# Altium footprint library CAP_SMD.PcbLib: 70 footprints (part 3 of 5)
Each footprint in its own frame and in the unit in brackets; x right, y up, seen from the top. Pads: shape width x height; smd on the part's side, far side on the other; paste and mask are expansions set on the pad; w line width, h text height; cw(c..) or ccw(c..) is an arc to the next point about the centre after c.
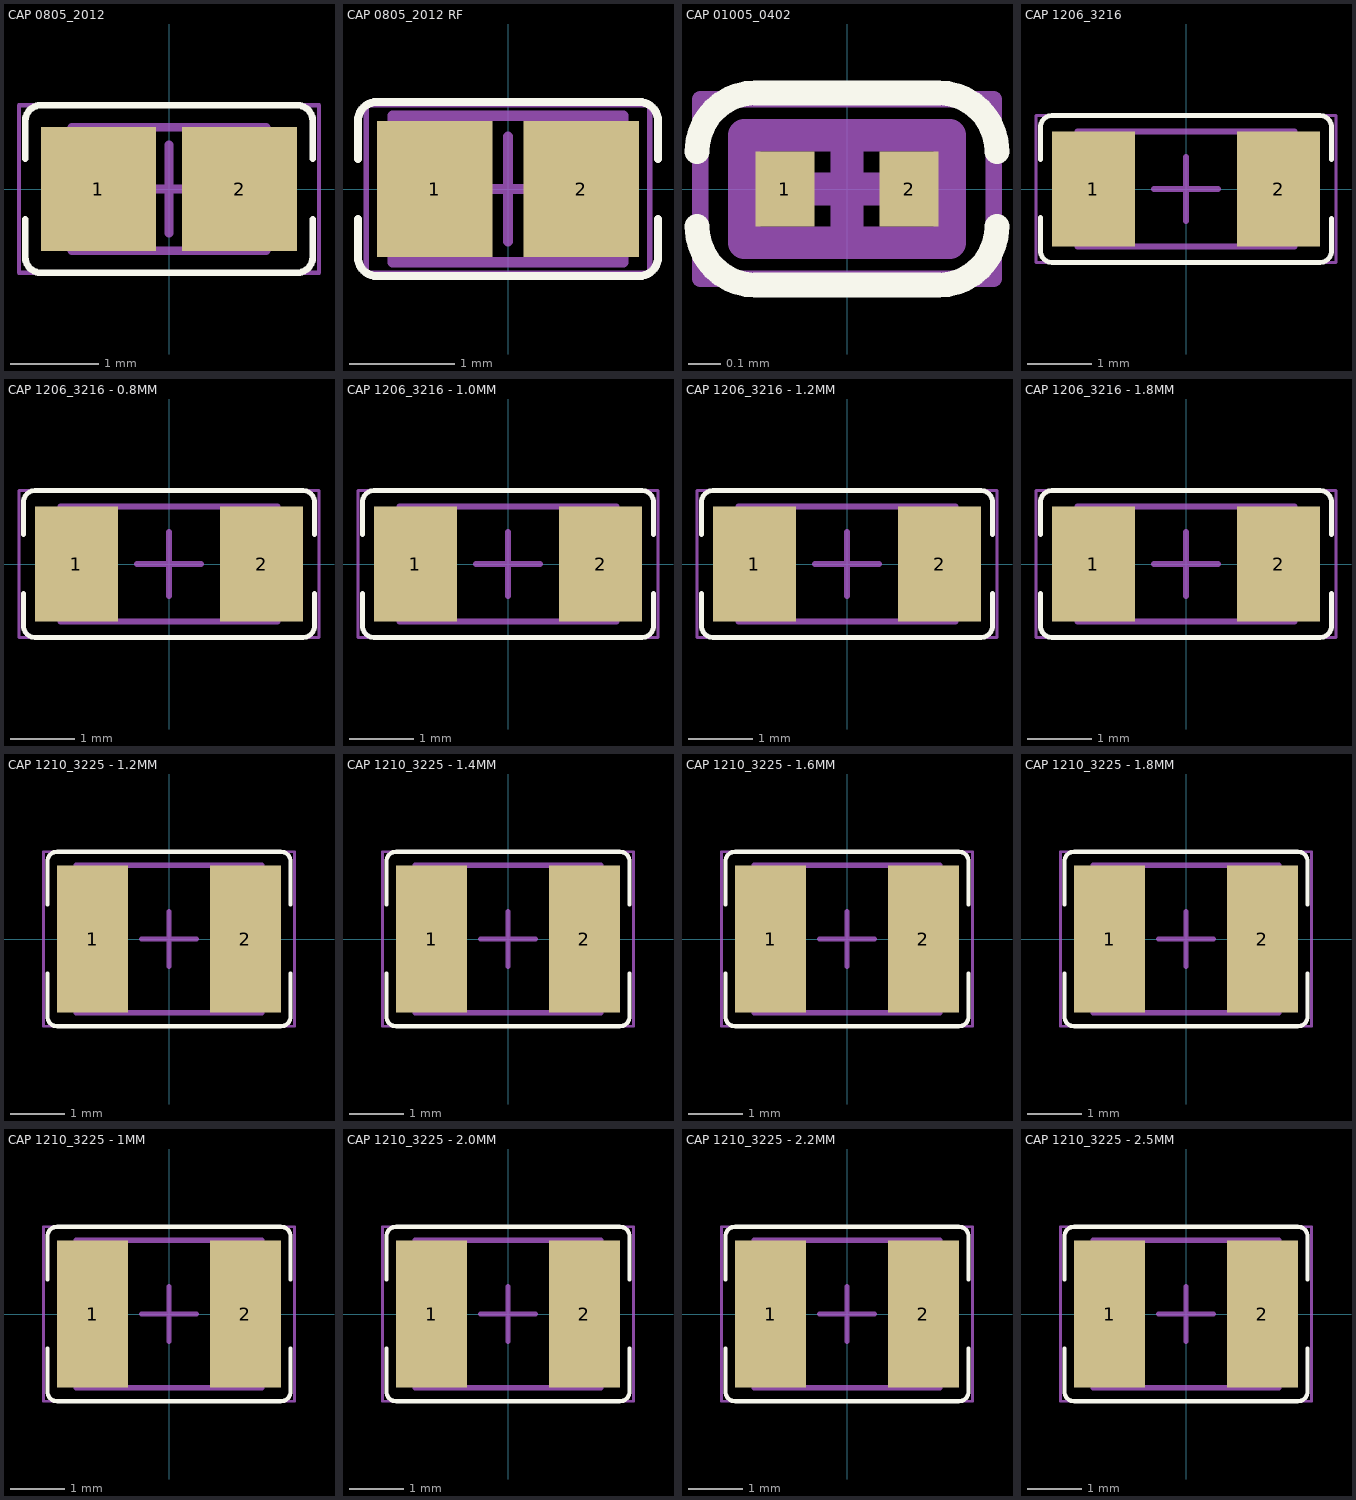
[diagram p2: the footprints below, top view; thin cyan lines are the x and y axes]

## CAP 0805_2012 [mm] "Chip Capacitor, 2-Leads, Body 2.00x1.20mm, IPC Medium Density"
height 1.15
pads (2):
  rect 1.3x1.4 smd: 1(-0.8,0) 2(0.8,0)
Top Overlay:
  lines w0.076: -1.63,-0.346 -1.63,-0.77 ccw(c-1.45,-0.77) -1.45,-0.95 1.45,-0.95 ccw(c1.45,-0.77) 1.63,-0.77 1.63,-0.346 ; -1.63,0.346 -1.63,0.77 cw(c-1.45,0.77) -1.45,0.95 1.45,0.95 cw(c1.45,0.77) 1.63,0.77 1.63,0.346
Mechanical 13:
  lines w0.1: -1.1,-0.7 1.1,-0.7 1.1,0.7 -1.1,0.7 -1.1,-0.7
Mechanical 15:
  lines w0.05: -1.7,-0.95 1.7,-0.95 1.7,0.95 -1.7,0.95 -1.7,-0.95
  lines w0.1: -0.5,0 0.5,0 ; 0,-0.5 0,0.5
3D body "0805 cap.STEP": height 1.26, standoff -0.02, extent -1,-0.637 1,0.637

## CAP 0805_2012 RF [mm] "Chip Capacitor, 2-Leads, Body 2.00x1.20mm, IPC High Density"
height 1.15
pads (2):
  rect 1.1x1.3 smd: 1(-0.7,0) 2(0.7,0)
Top Overlay:
  lines w0.076: -1.43,-0.287 -1.43,-0.65 ccw(c-1.25,-0.65) -1.25,-0.83 1.25,-0.83 ccw(c1.25,-0.65) 1.43,-0.65 1.43,-0.287 ; -1.43,0.287 -1.43,0.65 cw(c-1.25,0.65) -1.25,0.83 1.25,0.83 cw(c1.25,0.65) 1.43,0.65 1.43,0.287
Mechanical 13:
  lines w0.1: -1.1,-0.7 -1.1,0.7 1.1,0.7 1.1,-0.7 -1.1,-0.7
Mechanical 15:
  lines w0.05: -1.35,-0.8 -1.35,0.8 1.35,0.8 1.35,-0.8 -1.35,-0.8
  lines w0.1: -0.5,0 0.5,0 ; 0,-0.5 0,0.5
3D body "0805 cap.STEP": height 1.26, standoff -0.02, extent -1,-0.637 1,0.637

## CAP 01005_0402 [mm] "Chip Capacitor, 2-Leads, Body 0.30x0.15mm, IPC Medium Density"
height 0.25
pads (2):
  rect 0.18x0.23 smd: 1(-0.19,0) 2(0.19,0)
Top Overlay:
  lines w0.076: -0.46,-0.115 ccw(c-0.28,-0.115) -0.28,-0.295 0.28,-0.295 ccw(c0.28,-0.115) 0.46,-0.115 ; -0.46,0.115 cw(c-0.28,0.115) -0.28,0.295 0.28,0.295 cw(c0.28,0.115) 0.46,0.115
Mechanical 13:
  lines w0.1: -0.315,-0.165 -0.315,0.165 0.315,0.165 0.315,-0.165 -0.315,-0.165
Mechanical 15:
  lines w0.05: -0.45,-0.275 0.45,-0.275 0.45,0.275 -0.45,0.275 -0.45,-0.275
  lines w0.1: -0.165,0 0.165,0 ; 0,-0.165 0,0.165
3D body "CAP 01005.step": height 0.19, standoff -0.01, extent -0.2,-0.1 0.2,0.102

## CAP 1206_3216 [mm] "Chip Capacitor, 2-Leads, Body 3.25x1.60mm, IPC Medium Density"
height 1.6
pads (2):
  rect 1.3x1.8 smd: 1(-1.45,0) 2(1.45,0)
Top Overlay:
  lines w0.076: -2.28,-0.445 -2.28,-0.97 ccw(c-2.1,-0.97) -2.1,-1.15 2.1,-1.15 ccw(c2.1,-0.97) 2.28,-0.97 2.28,-0.458 ; -2.28,0.458 -2.28,0.97 cw(c-2.1,0.97) -2.1,1.15 2.1,1.15 cw(c2.1,0.97) 2.28,0.97 2.28,0.458
Mechanical 13:
  lines w0.1: -1.7,-0.9 -1.7,0.9 1.7,0.9 1.7,-0.9 -1.7,-0.9
Mechanical 15:
  lines w0.05: -2.35,-1.15 -2.35,1.15 2.35,1.15 2.35,-1.15 -2.35,-1.15
  lines w0.1: -0.5,0 0.5,0 ; 0,-0.5 0,0.5
3D body "1206 cap.STEP": height 1.62, standoff 0, extent -1.6,-0.812 1.6,0.812

## CAP 1206_3216 - 0.8MM [mm] "Chip Capacitor, 2-Leads, Body 3.25x1.60mm, IPC Medium Density"
height 0.8
pads (2):
  rect 1.3x1.8 smd: 1(-1.45,0) 2(1.45,0)
Top Overlay:
  lines w0.076: -2.28,-0.458 -2.28,-0.97 ccw(c-2.1,-0.97) -2.1,-1.15 2.1,-1.15 ccw(c2.1,-0.97) 2.28,-0.97 2.28,-0.458 ; -2.28,0.458 -2.28,0.97 cw(c-2.1,0.97) -2.1,1.15 2.1,1.15 cw(c2.1,0.97) 2.28,0.97 2.28,0.458
Mechanical 13:
  lines w0.1: -1.7,-0.9 -1.7,0.9 1.7,0.9 1.7,-0.9 -1.7,-0.9
Mechanical 15:
  lines w0.05: -2.35,-1.15 -2.35,1.15 2.35,1.15 2.35,-1.15 -2.35,-1.15
  lines w0.1: -0.5,0 0.5,0 ; 0,-0.5 0,0.5
3D body "CAP 1206-0.8mm.STEP": height 0.8, standoff 0, extent -1.6,-0.8 1.6,0.8

## CAP 1206_3216 - 1.0MM [mm] "Chip Capacitor, 2-Leads, Body 3.25x1.60mm, IPC Medium Density"
height 1
pads (2):
  rect 1.3x1.8 smd: 1(-1.45,0) 2(1.45,0)
Top Overlay:
  lines w0.076: -2.28,-0.458 -2.28,-0.97 ccw(c-2.1,-0.97) -2.1,-1.15 2.1,-1.15 ccw(c2.1,-0.97) 2.28,-0.97 2.28,-0.458 ; -2.28,0.458 -2.28,0.97 cw(c-2.1,0.97) -2.1,1.15 2.1,1.15 cw(c2.1,0.97) 2.28,0.97 2.28,0.458
Mechanical 13:
  lines w0.1: -1.7,-0.9 1.7,-0.9 1.7,0.9 -1.7,0.9 -1.7,-0.9
Mechanical 15:
  lines w0.05: -2.35,-1.15 2.35,-1.15 2.35,1.15 -2.35,1.15 -2.35,-1.15
  lines w0.1: -0.5,0 0.5,0 ; 0,-0.5 0,0.5
3D body "CAP 1206-1mm.STEP": height 1, standoff 0, extent -1.6,-0.8 1.6,0.8

## CAP 1206_3216 - 1.2MM [mm] "Chip Capacitor, 2-Leads, Body 3.25x1.60mm, IPC Medium Density"
height 1.2
pads (2):
  rect 1.3x1.8 smd: 1(-1.45,0) 2(1.45,0)
Top Overlay:
  lines w0.076: -2.28,-0.458 -2.28,-0.97 ccw(c-2.1,-0.97) -2.1,-1.15 2.1,-1.15 ccw(c2.1,-0.97) 2.28,-0.97 2.28,-0.458 ; -2.28,0.458 -2.28,0.97 cw(c-2.1,0.97) -2.1,1.15 2.1,1.15 cw(c2.1,0.97) 2.28,0.97 2.28,0.458
Mechanical 13:
  lines w0.1: -1.7,-0.9 -1.7,0.9 1.7,0.9 1.7,-0.9 -1.7,-0.9
Mechanical 15:
  lines w0.05: -2.35,-1.15 -2.35,1.15 2.35,1.15 2.35,-1.15 -2.35,-1.15
  lines w0.1: -0.5,0 0.5,0 ; 0,-0.5 0,0.5
3D body "CAP 1206-1.2mm.STEP": height 1.2, standoff 0, extent -1.6,-0.8 1.6,0.8

## CAP 1206_3216 - 1.8MM [mm] "Chip Capacitor, 2-Leads, Body 3.25x1.60mm, IPC Medium Density"
height 1.8
pads (2):
  rect 1.3x1.8 smd: 1(-1.45,0) 2(1.45,0)
Top Overlay:
  lines w0.076: -2.28,-0.458 -2.28,-0.97 ccw(c-2.1,-0.97) -2.1,-1.15 2.1,-1.15 ccw(c2.1,-0.97) 2.28,-0.97 2.28,-0.458 ; -2.28,0.458 -2.28,0.97 cw(c-2.1,0.97) -2.1,1.15 2.1,1.15 cw(c2.1,0.97) 2.28,0.97 2.28,0.458
Mechanical 13:
  lines w0.1: -1.7,-0.9 -1.7,0.9 1.7,0.9 1.7,-0.9 -1.7,-0.9
Mechanical 15:
  lines w0.05: -2.35,-1.15 -2.35,1.15 2.35,1.15 2.35,-1.15 -2.35,-1.15
  lines w0.1: -0.5,0 0.5,0 ; 0,-0.5 0,0.5
3D body "CAP 1206-1.8mm.STEP": height 1.8, standoff 0, extent -1.6,-0.8 1.6,0.8

## CAP 1210_3225 - 1.2MM [mm] "Chip Capacitor, 2-Leads, Body 3.20x2.50mm, IPC Medium Density"
height 1.2
pads (2):
  rect 1.3x2.7 smd: 1(-1.4,0) 2(1.4,0)
Top Overlay:
  lines w0.076: -2.23,-0.635 -2.23,-1.42 ccw(c-2.05,-1.42) -2.05,-1.6 2.05,-1.6 ccw(c2.05,-1.42) 2.23,-1.42 2.23,-0.635 ; -2.23,0.635 -2.23,1.42 cw(c-2.05,1.42) -2.05,1.6 2.05,1.6 cw(c2.05,1.42) 2.23,1.42 2.23,0.635
Mechanical 13:
  lines w0.1: -1.7,-1.35 1.7,-1.35 1.7,1.35 -1.7,1.35 -1.7,-1.35
Mechanical 15:
  lines w0.05: -2.3,-1.6 2.3,-1.6 2.3,1.6 -2.3,1.6 -2.3,-1.6
  lines w0.1: -0.5,0 0.5,0 ; 0,-0.5 0,0.5
3D body "CAP 1210-1.2mm.STEP": height 1.2, standoff 0, extent -1.6,-1.25 1.6,1.25

## CAP 1210_3225 - 1.4MM [mm] "Chip Capacitor, 2-Leads, Body 3.20x2.50mm, IPC Medium Density"
height 1.4
pads (2):
  rect 1.3x2.7 smd: 1(-1.4,0) 2(1.4,0)
Top Overlay:
  lines w0.076: -2.23,-0.635 -2.23,-1.42 ccw(c-2.05,-1.42) -2.05,-1.6 2.05,-1.6 ccw(c2.05,-1.42) 2.23,-1.42 2.23,-0.635 ; -2.23,0.635 -2.23,1.42 cw(c-2.05,1.42) -2.05,1.6 2.05,1.6 cw(c2.05,1.42) 2.23,1.42 2.23,0.635
Mechanical 13:
  lines w0.1: -1.7,-1.35 1.7,-1.35 1.7,1.35 -1.7,1.35 -1.7,-1.35
Mechanical 15:
  lines w0.05: -2.3,-1.6 2.3,-1.6 2.3,1.6 -2.3,1.6 -2.3,-1.6
  lines w0.1: -0.5,0 0.5,0 ; 0,-0.5 0,0.5
3D body "CAP 1210-1.4mm.STEP": height 1.4, standoff 0, extent -1.6,-1.25 1.6,1.25

## CAP 1210_3225 - 1.6MM [mm] "Chip Capacitor, 2-Leads, Body 3.20x2.50mm, IPC Medium Density"
height 1.6
pads (2):
  rect 1.3x2.7 smd: 1(-1.4,0) 2(1.4,0)
Top Overlay:
  lines w0.076: -2.23,-0.635 -2.23,-1.42 ccw(c-2.05,-1.42) -2.05,-1.6 2.05,-1.6 ccw(c2.05,-1.42) 2.23,-1.42 2.23,-0.635 ; -2.23,0.635 -2.23,1.42 cw(c-2.05,1.42) -2.05,1.6 2.05,1.6 cw(c2.05,1.42) 2.23,1.42 2.23,0.635
Mechanical 13:
  lines w0.1: -1.7,-1.35 -1.7,1.35 1.7,1.35 1.7,-1.35 -1.7,-1.35
Mechanical 15:
  lines w0.05: -2.3,-1.6 -2.3,1.6 2.3,1.6 2.3,-1.6 -2.3,-1.6
  lines w0.1: -0.5,0 0.5,0 ; 0,-0.5 0,0.5
3D body "CAP 1210-1.6mm.STEP": height 1.6, standoff 0, extent -1.6,-1.25 1.6,1.25

## CAP 1210_3225 - 1.8MM [mm] "Chip Capacitor, 2-Leads, Body 3.20x2.50mm, IPC Medium Density"
height 1.8
pads (2):
  rect 1.3x2.7 smd: 1(-1.4,0) 2(1.4,0)
Top Overlay:
  lines w0.076: -2.23,-0.635 -2.23,-1.42 ccw(c-2.05,-1.42) -2.05,-1.6 2.05,-1.6 ccw(c2.05,-1.42) 2.23,-1.42 2.23,-0.635 ; -2.23,0.635 -2.23,1.42 cw(c-2.05,1.42) -2.05,1.6 2.05,1.6 cw(c2.05,1.42) 2.23,1.42 2.23,0.635
Mechanical 13:
  lines w0.1: -1.7,-1.35 1.7,-1.35 1.7,1.35 -1.7,1.35 -1.7,-1.35
Mechanical 15:
  lines w0.05: -2.3,-1.6 2.3,-1.6 2.3,1.6 -2.3,1.6 -2.3,-1.6
  lines w0.1: -0.5,0 0.5,0 ; 0,-0.5 0,0.5
3D body "CAP 1210-1.8mm.STEP": height 1.8, standoff 0, extent -1.6,-1.25 1.6,1.25

## CAP 1210_3225 - 1MM [mm] "Chip Capacitor, 2-Leads, Body 3.20x2.50mm, IPC Medium Density"
height 1
pads (2):
  rect 1.3x2.7 smd: 1(-1.4,0) 2(1.4,0)
Top Overlay:
  lines w0.076: -2.23,-0.635 -2.23,-1.42 ccw(c-2.05,-1.42) -2.05,-1.6 2.05,-1.6 ccw(c2.05,-1.42) 2.23,-1.42 2.23,-0.635 ; -2.23,0.635 -2.23,1.42 cw(c-2.05,1.42) -2.05,1.6 2.05,1.6 cw(c2.05,1.42) 2.23,1.42 2.23,0.635
Mechanical 13:
  lines w0.1: -1.7,-1.35 -1.7,1.35 1.7,1.35 1.7,-1.35 -1.7,-1.35
Mechanical 15:
  lines w0.05: -2.3,-1.6 -2.3,1.6 2.3,1.6 2.3,-1.6 -2.3,-1.6
  lines w0.1: -0.5,0 0.5,0 ; 0,-0.5 0,0.5
3D body "CAP 1210-1mm.STEP": height 1, standoff 0, extent -1.6,-1.25 1.6,1.25

## CAP 1210_3225 - 2.0MM [mm] "Chip Capacitor, 2-Leads, Body 3.20x2.50mm, IPC Medium Density"
height 2
pads (2):
  rect 1.3x2.7 smd: 1(-1.4,0) 2(1.4,0)
Top Overlay:
  lines w0.076: -2.23,-0.635 -2.23,-1.42 ccw(c-2.05,-1.42) -2.05,-1.6 2.05,-1.6 ccw(c2.05,-1.42) 2.23,-1.42 2.23,-0.635 ; -2.23,0.635 -2.23,1.42 cw(c-2.05,1.42) -2.05,1.6 2.05,1.6 cw(c2.05,1.42) 2.23,1.42 2.23,0.635
Mechanical 13:
  lines w0.1: -1.7,-1.35 1.7,-1.35 1.7,1.35 -1.7,1.35 -1.7,-1.35
Mechanical 15:
  lines w0.05: -2.3,-1.6 2.3,-1.6 2.3,1.6 -2.3,1.6 -2.3,-1.6
  lines w0.1: -0.5,0 0.5,0 ; 0,-0.5 0,0.5
3D body "CAP 1210-2.0mm.STEP": height 2, standoff 0, extent -1.6,-1.25 1.6,1.25

## CAP 1210_3225 - 2.2MM [mm] "Chip Capacitor, 2-Leads, Body 3.20x2.50mm, IPC Medium Density"
height 2.2
pads (2):
  rect 1.3x2.7 smd: 1(-1.4,0) 2(1.4,0)
Top Overlay:
  lines w0.076: -2.23,-0.635 -2.23,-1.42 ccw(c-2.05,-1.42) -2.05,-1.6 2.05,-1.6 ccw(c2.05,-1.42) 2.23,-1.42 2.23,-0.635 ; -2.23,0.635 -2.23,1.42 cw(c-2.05,1.42) -2.05,1.6 2.05,1.6 cw(c2.05,1.42) 2.23,1.42 2.23,0.635
Mechanical 13:
  lines w0.1: -1.7,-1.35 1.7,-1.35 1.7,1.35 -1.7,1.35 -1.7,-1.35
Mechanical 15:
  lines w0.05: -2.3,-1.6 2.3,-1.6 2.3,1.6 -2.3,1.6 -2.3,-1.6
  lines w0.1: -0.5,0 0.5,0 ; 0,-0.5 0,0.5
3D body "CAP 1210-2.2mm.STEP": height 2.2, standoff 0, extent -1.6,-1.25 1.6,1.25

## CAP 1210_3225 - 2.5MM [mm] "Chip Capacitor, 2-Leads, Body 3.20x2.50mm, IPC Medium Density"
height 2.5
pads (2):
  rect 1.3x2.7 smd: 1(-1.4,0) 2(1.4,0)
Top Overlay:
  lines w0.076: -2.23,-0.635 -2.23,-1.42 ccw(c-2.05,-1.42) -2.05,-1.6 2.05,-1.6 ccw(c2.05,-1.42) 2.23,-1.42 2.23,-0.635 ; -2.23,0.635 -2.23,1.42 cw(c-2.05,1.42) -2.05,1.6 2.05,1.6 cw(c2.05,1.42) 2.23,1.42 2.23,0.635
Mechanical 13:
  lines w0.1: -1.7,-1.35 -1.7,1.35 1.7,1.35 1.7,-1.35 -1.7,-1.35
Mechanical 15:
  lines w0.05: -2.3,-1.6 -2.3,1.6 2.3,1.6 2.3,-1.6 -2.3,-1.6
  lines w0.1: -0.5,0 0.5,0 ; 0,-0.5 0,0.5
3D body "CAP 1210-2.5mm.STEP": height 2.5, standoff 0, extent -1.6,-1.25 1.6,1.25